# Altium schematic symbol library PT4115B89E-B.SchLib: 1 symbol
Pins are listed as number, name and electrical type; pins without a type are passive.

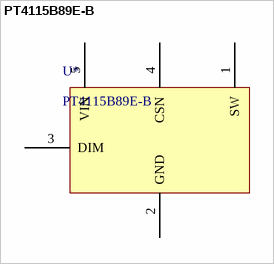
[diagram p0: symbol PT4115B89E-B]

## PT4115B89E-B
designator U*
pins: 1 SW, 2 GND, 3 DIM, 4 CSN, 5 VIN